# Altium footprint library roket2023.PcbLib: 19 footprints (part 1 of 2)
Each footprint in its own frame and in the unit in brackets; x right, y up, seen from the top. Pads: shape width x height; smd on the part's side, far side on the other; paste and mask are expansions set on the pad; w line width, h text height; cw(c..) or ccw(c..) is an arc to the next point about the centre after c.
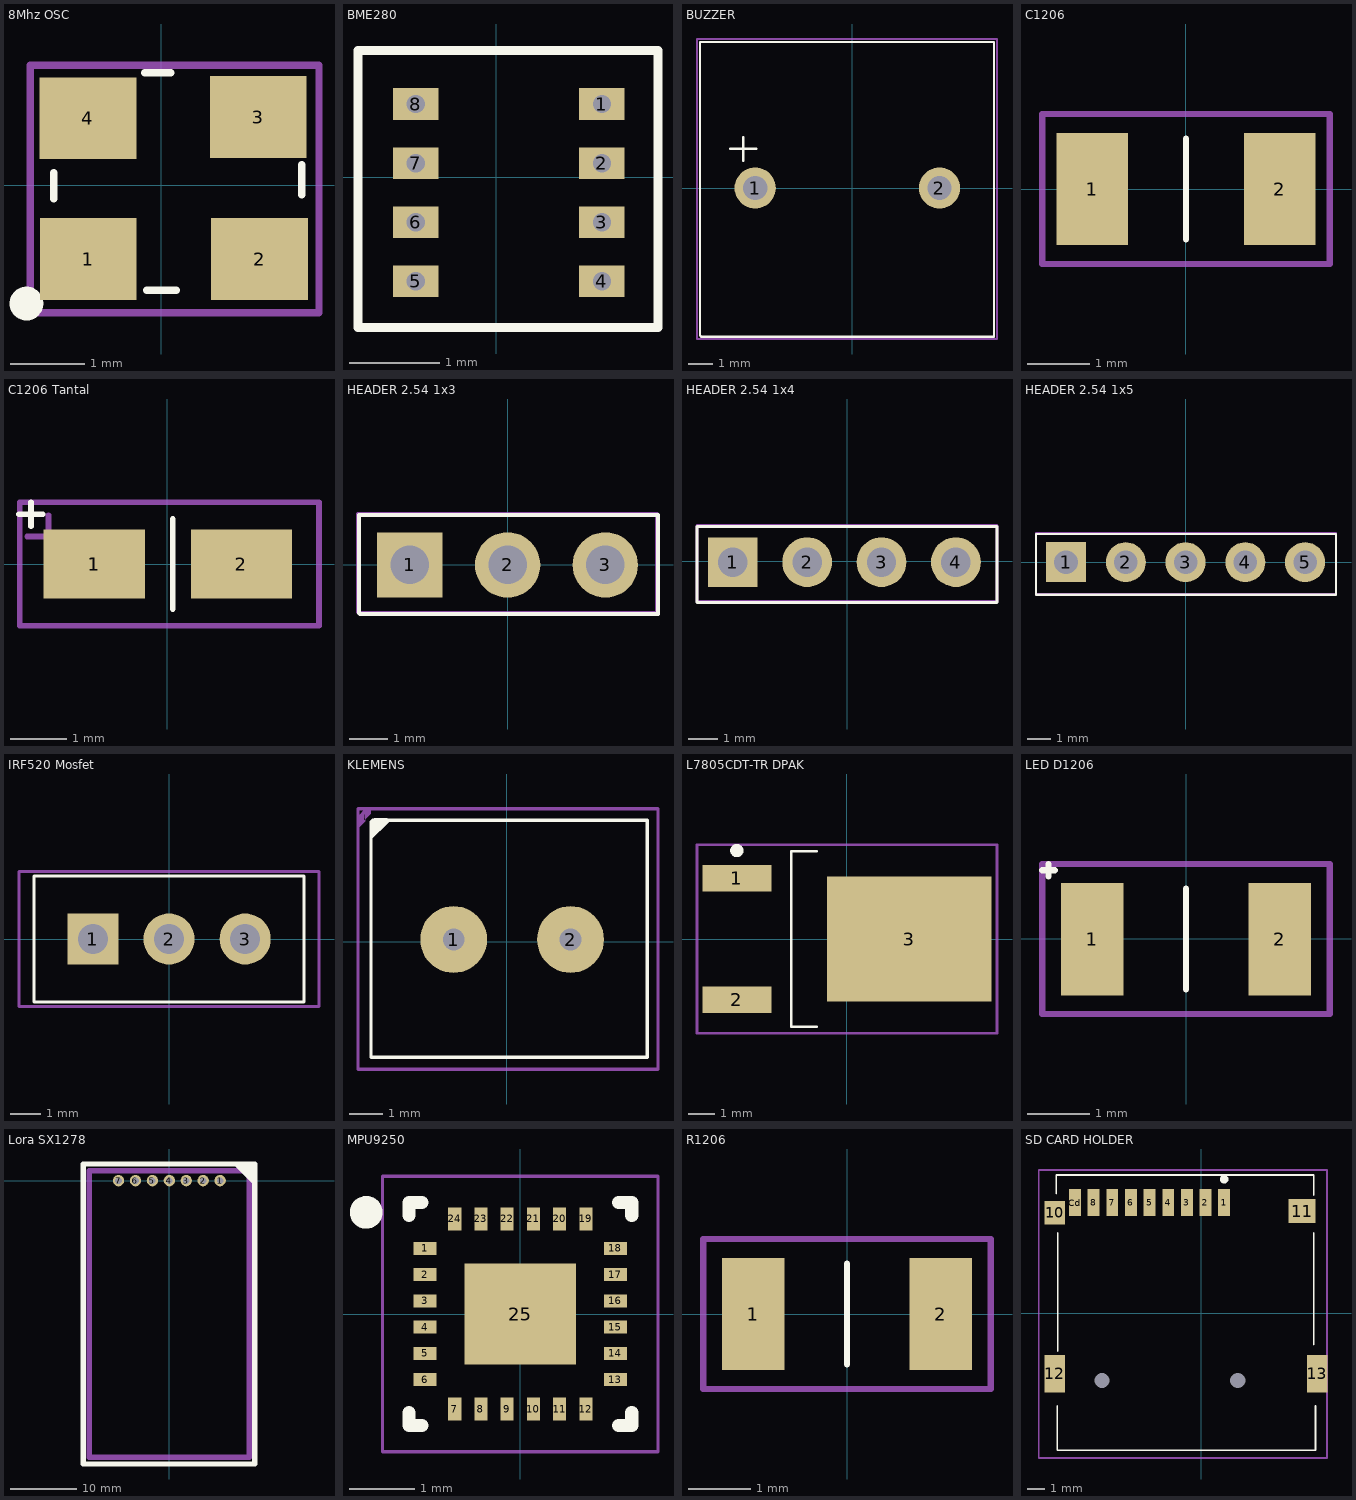
[diagram p0: the footprints below, top view; thin cyan lines are the x and y axes]

## 8Mhz OSC [mm]
pads (4):
  rect 1.3x1.1 smd mask+0.05: 1(-0.981,-0.99) 2(1.319,-0.99) 3(1.303,0.917) 4(-0.986,0.901)
Top Overlay:
  circle w0.254: c-1.812,-1.589 r0.1
  lines w0.1: -1.445,-0.182 -1.445,0.172 ; -0.224,1.51 0.13,1.51 ; -0.199,-1.411 0.201,-1.411 ; 1.884,-0.124 1.884,0.276
Mechanical 3:
  circle w0.254: c-1.216,-1.024 r0.1
  lines w0.1: -1.761,-1.711 2.118,-1.711 2.118,1.613 -1.761,1.613 -1.761,-1.711
3D body "ASE3.STEP": height 1.22, standoff -0.03, extent -1.379,-1.141 1.821,1.359

## BME280 [mm]
pads (9):
  rect 0.5x0.35 hole 0.2: 1(1.161,0.807) 2(1.161,0.157) 3(1.161,-0.493) 4(1.161,-1.143) 5(-0.889,-1.143) 6(-0.889,-0.493) 7(-0.889,0.157) 8(-0.889,0.807) ""(1.161,-1.143)
Top Overlay:
  lines w0.1: -1.524,-1.651 1.778,-1.651 1.778,1.397 -1.524,1.397 -1.524,-1.651
Drill Drawing:
  circle w0.1: c1.524,1.143 r0.01
3D body "User Library-BME280-1.STEP": height 0.93, standoff 0, extent -1.123,-1.377 1.377,1.123

## BUZZER [mm]
pads (2):
  round 1.7 hole 1 mask+0.05: 1(-4,0) 2(3.6,0)
Top Overlay:
  lines w0.1: -5.025,1.625 -3.95,1.625 ; -4.5,1.125 -4.5,2.1 ; -6.275,-6.075 -6.275,6.025 5.85,6.025 5.85,-6.125 -6.225,-6.125 -6.275,-6.075
Mechanical 3:
  lines w0.1: -6.4,-6.225 -6.4,6.15 5.975,6.15 5.975,-6.225 -6.4,-6.225
3D body "cem-1205c.stp": height 9.5, standoff -4.5, extent -6.2,-6.05 5.8,5.95

## C1206 [mm]
pads (2):
  rect 1.15x1.8 smd mask+0.05: 1(-1.5,0) 2(1.5,0)
Top Overlay:
  lines w0.1: 0,-0.805 0,0.805
Mechanical 3:
  lines w0.1: -2.3,-1.2 2.3,-1.2 2.3,1.2 -2.3,1.2 -2.3,-1.2
3D body "1206CAP.step": height 1, standoff 0, extent -1.6,-0.8 1.6,0.8

## C1206 Tantal [mm]
pads (3):
  rect 1.8x1.23 smd mask+0.05: 1(-1.3,0) 1(-1.3,0) 2(1.32,0)
Top Overlay:
  lines w0.1: -2.637,0.888 -2.212,0.888 ; -2.425,0.675 -2.425,1.1 ; 0.1,-0.8 0.1,0.8
Mechanical 3:
  lines w0.1: -2.494,0.489 -1.732,0.489 ; -2.113,0.108 -2.113,0.87 ; -2.625,-1.1 -2.625,1.1 2.7,1.1 2.7,-1.1 -2.625,-1.1
3D body "User Library-CaseA_3216-18.step": height 1.62, standoff 0.02, extent -1.6,-0.8 1.6,0.8

## HEADER 2.54 1x3 [mm]
pads (3):
  rect 1.7x1.7 hole 1 mask+0.05: 1(-2.54,0)
  round 1.7 hole 1 mask+0.05: 2(0,0) 3(2.54,0)
Top Overlay:
  lines w0.1: -3.865,-1.25 -3.865,1.3 3.91,1.3 3.91,-1.275 -3.84,-1.275 -3.865,-1.25
Mechanical 3:
  lines w0.1: -3.89,-1.225 -3.865,-1.25 3.885,-1.25 3.885,1.325 -3.89,1.325 -3.89,-1.225
3D body "User Library-ZL262-3SG.step": height 9.1, standoff -2.45, extent -3.8,-1.25 3.82,1.25

## HEADER 2.54 1x4 [mm]
pads (4):
  rect 1.7x1.7 hole 1 mask+0.05: 1(-3.9,-0.025)
  round 1.7 hole 1 mask+0.05: 2(-1.36,-0.025) 3(1.18,-0.025) 4(3.72,-0.025)
Top Overlay:
  lines w0.1: -5.125,-1.4 -5.125,1.2 5.125,1.2 5.125,-1.4 -5.125,-1.4
Mechanical 3:
  lines w0.1: -5.125,-1.375 5.125,-1.375 5.125,1.225 -5.125,1.225 -5.125,-1.375
3D body "User Library-ZL262-4SG.step": height 9.1, standoff -2.45, extent -5.08,-1.35 5.08,1.15

## HEADER 2.54 1x5 [mm]
pads (5):
  rect 1.7x1.7 hole 1 mask+0.05: 1(-5.08,0)
  round 1.7 hole 1 mask+0.05: 2(-2.54,0) 3(0,0) 4(2.54,0) 5(5.08,0)
Top Overlay:
  lines w0.1: -6.355,-1.375 -6.355,1.2 6.395,1.2 6.395,-1.375 -6.355,-1.375
Mechanical 3:
  lines w0.1: -6.355,-1.35 -6.355,1.225 6.395,1.225 6.395,-1.35 -6.355,-1.35
3D body "User Library-ZL262-5SG (1).step": height 9.1, standoff -2.45, extent -6.33,-1.3 6.37,1.2

## IRF520 Mosfet [mm] "anahtarlama"
pads (3):
  rect 1.7x1.7 hole 1 mask+0.05: 1(-2.54,0)
  round 1.7 hole 1 mask+0.05: 2(0,0) 3(2.54,0)
Top Overlay:
  lines w0.1: -4.5,-2.1 4.5,-2.1 4.5,2.1 -4.5,2.1 -4.5,-2.1
Mechanical 3:
  lines w0.1: -5,-2.25 5,-2.25 5,2.25 -5,2.25 -5,-2.25
3D body "regulator TO-220.step": height 22, standoff -7, extent -5.1,-1.9 5.1,2.601

## KLEMENS [mm]
pads (2):
  round 2 hole 0.65: 1(-1.596,0.06) 2(1.904,0.06)
Top Overlay:
  region: -3.529,3.592 -4.102,3.019 -4.102,3.554 -3.968,3.687 -3.589,3.687
  lines w0.1: -4.071,3.585 -4.071,-3.465 4.204,-3.465 4.204,3.635 -4.021,3.635
Mechanical 3:
  region: -4.244,3.97 -4.46,3.754 -4.46,3.971 -4.458,3.97 -4.244,3.97 -4.244,3.606 -4.458,3.392 -4.458,3.97 -4.244,3.97 -4.237,3.963 -4.078,3.963 -4.078,3.819 -4.281,3.617
  lines w0.1: -4.458,-3.812 -4.449,-3.821 4.521,-3.821 4.521,3.97 -4.244,3.97 -4.458,3.97 -4.458,-3.812
3D body "terminal_blocks_a-tb350-te02.stp": height 8.9, standoff -3.29, extent -3.896,-3.34 4.098,3.66

## L7805CDT-TR DPAK [mm]
pads (3):
  rect 2.6x1 smd: 1(-4.15,2.28) 2(-4.15,-2.28)
  rect 6.2x4.7 smd: 3(2.35,0)
Top Overlay:
  circle w0.25: c-4.15,3.33 r0.125
  lines w0.1: -1.15,-3.3 -2.1,-3.3 -2.1,3.3 -1.15,3.3
Mechanical 3:
  lines w0.1: -0.5,0 0.5,0 ; 0,-0.5 0,0.5 ; -5.65,-3.55 -5.65,3.55 5.65,3.55 5.65,-3.55 -5.65,-3.55
3D body: height 2.4, standoff 0.9, extent -2.1,-3.3 4.1,3.3

## LED D1206 [mm]
pads (2):
  rect 1x1.8 smd mask+0.05: 1(-1.5,0) 2(1.5,0)
Top Overlay:
  lines w0.1: -2.3,1.1 -2.1,1.1 ; -2.2,1 -2.2,1.2 ; 0,-0.805 0,0.805
Mechanical 3:
  lines w0.1: -2.3,-1.2 2.3,-1.2 2.3,1.2 -2.3,1.2 -2.3,-1.2
3D body "Surface Mount Chip LED 3.2x1.6mm 2.stp": height 1.11, standoff 0, extent -1.6,-0.803 1.6,0.797

## Lora SX1278 [mm]
pads (7):
  round 1.7 hole 1: 1(7.62,0) 2(5.08,0) 3(2.54,0) 4(0,0) 5(-2.54,0) 6(-5.08,0) 7(-7.62,0)
Top Overlay:
  lines w0.8: 9.9,2.5 10.1,2.5 12.8,-0.2 12.8,1 11.3,2.5 12.8,2.5 ; 11,2.4 12.25,1.15 11.45,1.15 12.8,2.5 ; 12.8,2.5 -12.3,2.5 -12.9,2.5 -12.9,-42.5 12.8,-42.5 12.8,2.5
Mechanical 1:
  lines w0.8: -12,-41.5 -12,1.5 12,1.5 12,-41.5 -12,-41.5
3D body "e32-433t20dt.X_T": height 8.1, standoff -5.52, extent -10.6,-47 10.4,1.5

## MPU9250 [mm]
height 1.05
pads (25):
  rect 0.35x0.2 smd mask+0.05: 1(-1.45,1) 2(-1.45,0.6) 3(-1.45,0.2) 4(-1.45,-0.2) 5(-1.45,-0.6) 6(-1.45,-1) 13(1.45,-1) 14(1.45,-0.6) 15(1.45,-0.2) 16(1.45,0.2) 17(1.45,0.6) 18(1.45,1)
  rect 0.2x0.35 smd mask+0.05: 7(-1,-1.45) 8(-0.6,-1.45) 9(-0.2,-1.45) 10(0.2,-1.45) 11(0.6,-1.45) 12(1,-1.45) 19(1,1.45) 20(0.6,1.45) 21(0.2,1.45) 22(-0.2,1.45) 23(-0.6,1.45) 24(-1,1.45)
  rect 1.7x1.54 smd mask+0.05: 25(0,0)
Top Overlay:
  circle w0.25: c-2.35,1.55 r0.125
  lines w0.2: -1.7,-1.5 -1.7,-1.7 -1.5,-1.7 ; -1.7,1.5 -1.7,1.7 -1.5,1.7 ; 1.5,-1.7 1.7,-1.7 1.7,-1.5 ; 1.5,1.7 1.7,1.7 1.7,1.5
Mechanical 3:
  lines w0.05: -2.1,-2.1 -2.1,2.1 2.1,2.1 2.1,-2.1 -2.1,-2.1
  lines w0.1: -0.5,0 0.5,0 ; 0,-0.5 0,0.5
3D body: height 1.05, standoff 0, extent -1.55,-1.55 1.55,1.55

## R1206 [mm]
pads (2):
  rect 1x1.8 smd mask+0.05: 1(-1.5,0) 2(1.5,0)
Top Overlay:
  lines w0.1: 0,-0.805 0,0.805
Mechanical 3:
  lines w0.1: -2.3,-1.2 2.3,-1.2 2.3,1.2 -2.3,1.2 -2.3,-1.2
3D body "1206RES.step": height 0.55, standoff 0, extent -1.6,-0.805 1.6,0.805

## SD CARD HOLDER [mm]
pads (15):
  rect 0.7x1.6 smd paste+0 mask+0: 1(1.352,6.52) 2(0.252,6.52) 3(-0.848,6.52) 4(-1.948,6.52) 5(-3.048,6.52) 6(-4.148,6.52) 7(-5.248,6.52) 8(-6.348,6.52) Cd(-7.448,6.52)
  rect 1.2x1.4 smd paste+0 mask+0: 10(-8.648,5.92)
  rect 1.6x1.4 smd paste+0 mask+0: 11(5.952,6.02)
  rect 1.2x2.2 smd paste+0 mask+0: 12(-8.648,-3.58) 13(6.852,-3.58)
  round 0 hole 0.9 unplated paste-1000 mask+0: ""(-5.848,-3.98) ""(2.152,-3.98)
Top Overlay:
  circle w0.25: c1.352,7.895 r0.125
  lines w0.1: -8.557,7.044 -8.557,8.144 6.643,8.144 6.643,6.944 ; -8.49,-5.48 -8.49,-8.103 6.743,-8.103 6.743,-5.48 ; -8.457,-2.256 -8.457,4.744 ; 6.643,-1.856 6.643,4.744
Mechanical 3:
  lines w0.1: -9.582,-8.556 -9.582,8.444 -9.082,8.444 7.168,8.444 7.418,8.444 7.418,-8.556 -9.582,-8.556
3D body "User Library-MEM2055-00-190-01-A_revG.step": height 1.85, standoff -0.6, extent -8.9,-7.975 7.1,7.275